# Altium footprint library SoM_Router.PcbLib: 20 footprints (part 1 of 2)
Each footprint in its own frame and in the unit in brackets; x right, y up, seen from the top. Pads: shape width x height; smd on the part's side, far side on the other; paste and mask are expansions set on the pad; w line width, h text height; cw(c..) or ccw(c..) is an arc to the next point about the centre after c.
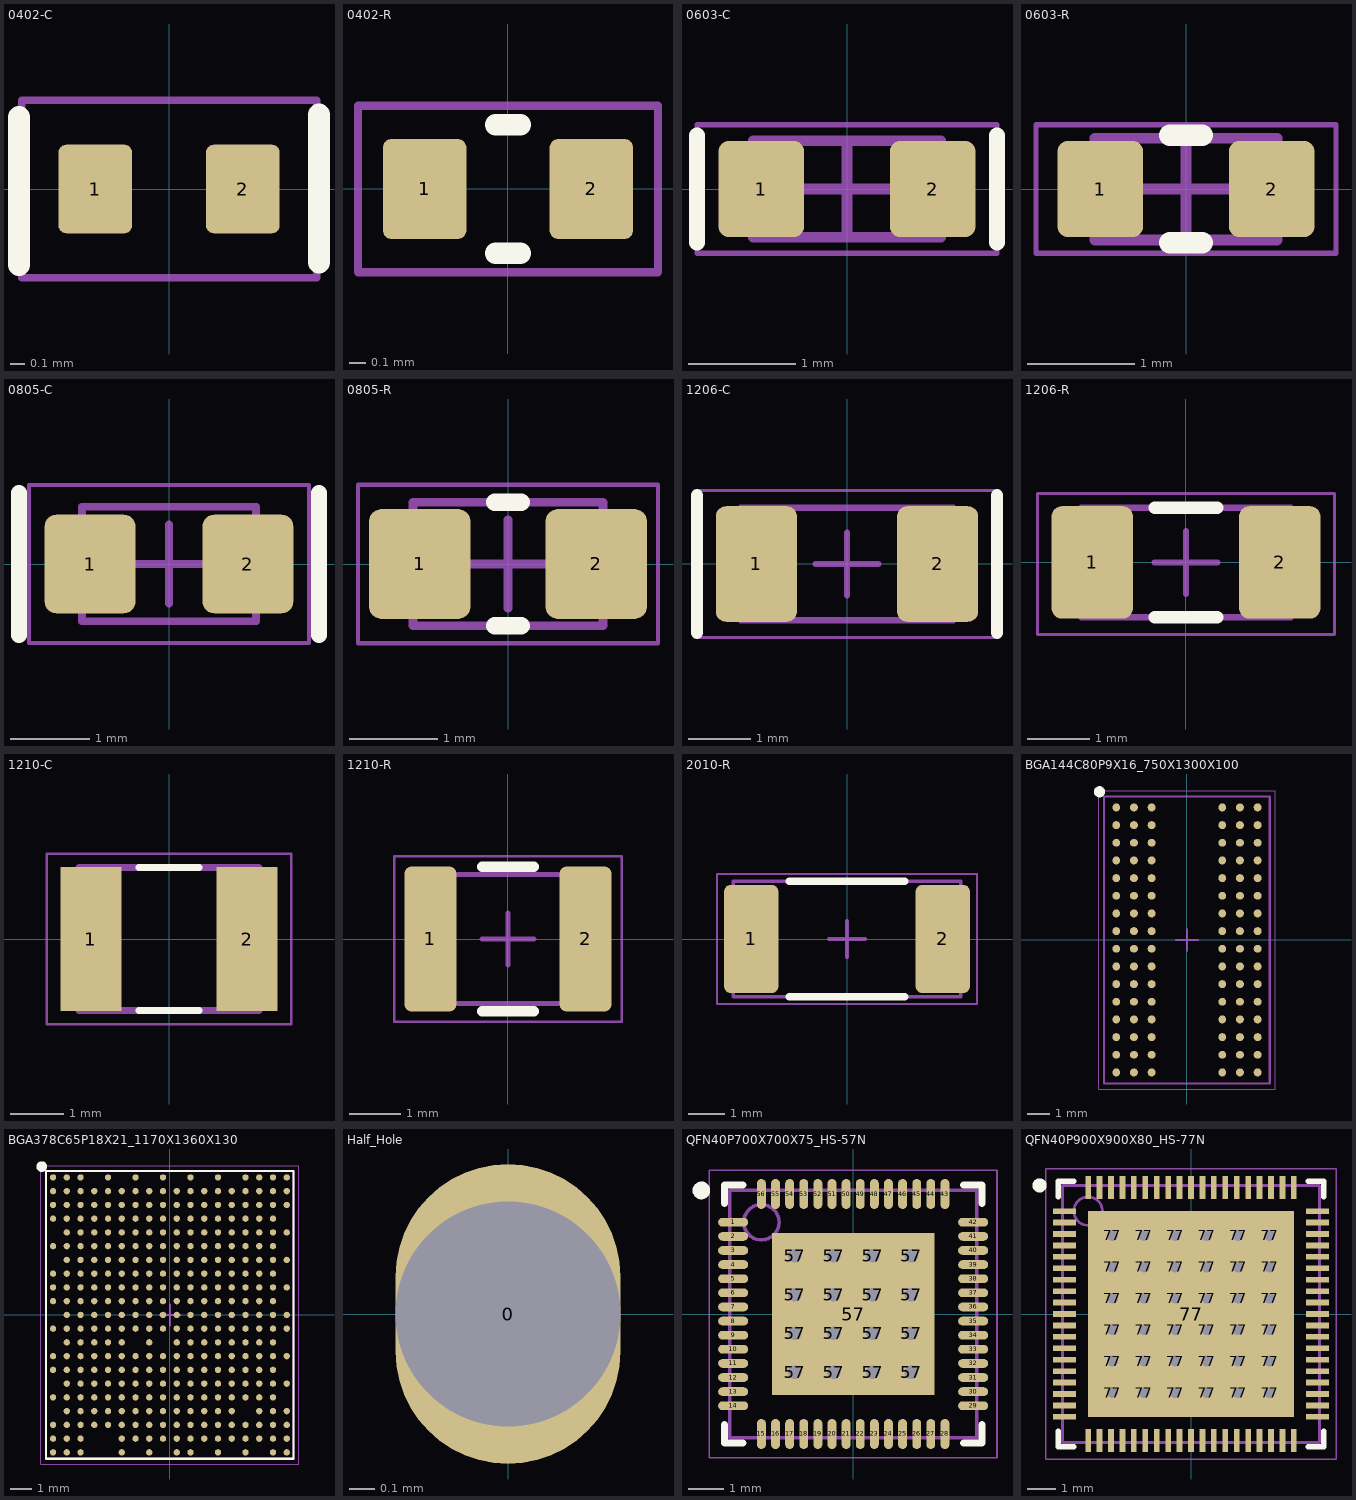
[diagram p0: the footprints below, top view; thin cyan lines are the x and y axes]

## 0402-C [mm]
pads (2):
  rrect20% 0.5x0.6 smd: 1(-0.5,0) 2(0.5,0)
Top Overlay:
  lines w0.152: -1.017,-0.515 -1.017,0.485 ; 1.016,-0.497 1.016,0.503
Mechanical 15:
  lines w0.051: -1,-0.6 -1,0.6 1,0.6 1,-0.6 -1,-0.6
3D body "GRM155R71H162JA01J.STEP": height 0.45, standoff -0.01, extent -0.5,-0.25 0.5,0.25

## 0402-R [mm]
pads (2):
  rrect20% 0.5x0.6 smd: 1(-0.5,0) 2(0.5,0)
Top Overlay:
  lines w0.127: -0.075,-0.385 0.075,-0.385 ; -0.075,0.385 0.075,0.385
Mechanical 15:
  lines w0.05: -0.9,-0.5 -0.9,0.5 0.9,0.5 0.9,-0.5 -0.9,-0.5
3D body "6-1676480-4.stp": height 0.32, standoff -0.04, extent -0.5,-0.25 0.5,0.25

## 0603-C [mm] "Capacitor 0603 Nominal Density"
height 0.55
pads (2):
  rrect25% 0.8x0.9 smd: 1(-0.8,0) 2(0.8,0)
Top Overlay:
  lines w0.15: -1.4,-0.5 -1.4,0.5 ; 1.4,-0.5 1.4,0.5
Top Courtyard:
  lines w0.05: -1.4,-0.6 1.4,-0.6 1.4,0.6 -1.4,0.6 -1.4,-0.6
  lines w0.1: -0.45,0 0.45,0 ; 0,-0.45 0,0.45
Top Assembly:
  lines w0.1: -0.875,-0.45 0.875,-0.45 0.875,0.45 -0.875,0.45 -0.875,-0.45
3D body "C_0603_X7R.STEP": height 0.95, standoff 0, extent -0.875,-0.435 0.875,0.435

## 0603-R [mm] "Resistor 0603 Medium Density"
height 0.3
pads (2):
  rrect25% 0.8x0.9 smd: 1(-0.8,0) 2(0.8,0)
Top Overlay:
  lines w0.2: -0.15,-0.5 0.15,-0.5 ; -0.15,0.5 0.15,0.5
Top Courtyard:
  lines w0.05: -1.4,-0.6 -1.4,0.6 1.4,0.6 1.4,-0.6 -1.4,-0.6
  lines w0.1: -0.5,0 0.5,0 ; 0,-0.5 0,0.5
Top Assembly:
  lines w0.1: -0.85,-0.475 -0.85,0.475 0.85,0.475 0.85,-0.475 -0.85,-0.475
3D body "Resistor SMD 0603.STEP": height 0.3, standoff 0, extent -0.8,-0.4 0.8,0.4

## 0805-C [mm] "Capacitor 0805 Nominal Density"
height 1.55
pads (2):
  rrect25% 1.15x1.25 smd: 1(-1,0) 2(1,0)
Top Overlay:
  lines w0.2: -1.9,-0.9 -1.9,0.9 ; 1.9,-0.9 1.9,0.9
Top Courtyard:
  lines w0.05: -1.775,-1 1.775,-1 1.775,1 -1.775,1 -1.775,-1
  lines w0.1: -0.5,0 0.5,0 ; 0,-0.5 0,0.5
Top Assembly:
  lines w0.1: -1.1,-0.725 1.1,-0.725 1.1,0.725 -1.1,0.725 -1.1,-0.725
3D body "CAP-0805.STEP": height 0.78, standoff 0, extent -1,-0.625 1,0.625

## 0805-R [mm] "Resistor 0805 Medium Density"
height 0.7
pads (2):
  rrect25% 1.15x1.25 smd: 1(-1,0) 2(1,0)
Top Overlay:
  lines w0.2: -0.15,-0.7 0.15,-0.7 ; -0.15,0.7 0.15,0.7
Top Courtyard:
  lines w0.05: -1.7,-0.9 1.7,-0.9 1.7,0.9 -1.7,0.9 -1.7,-0.9
  lines w0.1: -0.5,0 0.5,0 ; 0,-0.5 0,0.5
Top Assembly:
  lines w0.1: -1.075,-0.7 1.075,-0.7 1.075,0.7 -1.075,0.7 -1.075,-0.7
3D body "RES-0805.STEP": height 0.78, standoff 0, extent -1,-0.625 1,0.625

## 1206-C [mm] "Capacitor 1206 Nominal Density"
height 1.33
pads (2):
  rrect25% 1.3x1.85 smd: 1(-1.45,0) 2(1.45,0)
Top Overlay:
  lines w0.2: -2.4,-1.1 -2.4,1.1 ; 2.4,-1.1 2.4,1.1
Top Courtyard:
  lines w0.05: -2.35,-1.175 2.35,-1.175 2.35,1.175 -2.35,1.175 -2.35,-1.175
  lines w0.1: -0.5,0 0.5,0 ; 0,-0.5 0,0.5
Top Assembly:
  lines w0.1: -1.7,-0.9 1.7,-0.9 ; -1.7,-0.9 -1.7,0.9 ; -1.7,-0.9 1.7,-0.9 ; -1.7,-0.9 -1.7,0.9 ; -1.7,0.9 1.7,0.9 ; -1.7,0.9 1.7,0.9 ; 1.7,-0.9 1.7,0.9 ; 1.7,-0.9 1.7,0.9
3D body "CAP-1206.STEP": height 1, standoff 0, extent -1.6,-0.8 1.6,0.8

## 1206-R [mm] "Resistor 1206 Medium Density"
height 0.75
pads (2):
  rrect25% 1.3x1.8 smd: 1(-1.5,0) 2(1.5,0)
Top Overlay:
  lines w0.2: -0.5,-0.875 0.5,-0.875 ; -0.5,0.875 0.5,0.875
Top Courtyard:
  lines w0.05: -2.375,-1.15 -2.375,1.1 2.375,1.1 2.375,-1.15 -2.375,-1.15
  lines w0.1: -0.5,0 0.5,0 ; 0,-0.5 0,0.5
Top Assembly:
  lines w0.1: -1.675,-0.875 -1.675,0.875 1.675,0.875 1.675,-0.875 -1.675,-0.875
3D body "RES-1206.STEP": height 1, standoff 0, extent -1.6,-0.8 1.6,0.8

## 1210-C [mm]
pads (2):
  rect 1.16x2.72 smd: 1(-1.475,0) 2(1.475,0)
Top Overlay:
  lines w0.127: -0.57,-1.35 0.57,-1.35 ; -0.57,1.35 0.57,1.35
Mechanical 13:
  lines w0.127: -1.7,-1.35 -1.7,1.35 1.7,1.35 1.7,-1.35 -1.7,-1.35
Mechanical 15:
  lines w0.05: -2.308,-1.608 -2.308,1.608 2.308,1.608 2.308,-1.608 -2.308,-1.608
3D body "step_temp.STEP": height 2.8, standoff 0, extent -1.65,-1.25 1.65,1.25

## 1210-R [mm] "Resistor 1210 Medium Density"
height 0.7
pads (2):
  rrect25% 1x2.8 smd: 1(-1.5,0) 2(1.5,0)
Top Overlay:
  lines w0.2: -0.5,-1.4 0.5,-1.4 ; -0.5,1.4 0.5,1.4
Top Courtyard:
  lines w0.05: -2.2,-1.6 -2.2,1.6 2.2,1.6 2.2,-1.6 -2.2,-1.6
  lines w0.1: -0.5,0 0.5,0 ; 0,-0.5 0,0.5
Top Assembly:
  lines w0.1: -1.6,-1.25 -1.6,1.25 1.6,1.25 1.6,-1.25 -1.6,-1.25
3D body "RMCF1210JT33R0.STEP": height 0.7, standoff 0, extent -1.6,-1.25 1.6,1.25

## 2010-R [mm] "Resistor 2010 Medium Density"
height 0.7
pads (2):
  rrect25% 1.5x3 smd: 1(-2.65,0) 2(2.65,0)
Top Overlay:
  lines w0.2: -1.6,-1.6 1.6,-1.6 ; -1.6,1.6 1.6,1.6
Top Courtyard:
  lines w0.05: -3.6,-1.8 3.6,-1.8 3.6,1.8 -3.6,1.8 -3.6,-1.8
  lines w0.1: -0.5,0 0.5,0 ; 0,-0.5 0,0.5
Top Assembly:
  lines w0.1: -3.15,-1.6 -3.15,1.6 3.15,1.6 3.15,-1.6 -3.15,-1.6
3D body "CRM2010-FX-1000ELF.STEP": height 0.7, standoff 0, extent -2.5,-1.25 2.5,1.25

## BGA144C80P9X16_750X1300X100 [mm] "BGA, 144-Leads, Body 7.50x13.00mmx1.00mm, Pitch 0.80mm"
height 1
pads (96):
  round 0.36 smd: A1(-3.2,6) A2(-2.4,6) A3(-1.6,6) A7(1.6,6) A8(2.4,6) A9(3.2,6) B1(-3.2,5.2) B2(-2.4,5.2) B3(-1.6,5.2) B7(1.6,5.2) B8(2.4,5.2) B9(3.2,5.2) C1(-3.2,4.4) C2(-2.4,4.4) C3(-1.6,4.4) C7(1.6,4.4) C8(2.4,4.4) C9(3.2,4.4) D1(-3.2,3.6) D2(-2.4,3.6) D3(-1.6,3.6) D7(1.6,3.6) D8(2.4,3.6) D9(3.2,3.6) E1(-3.2,2.8) E2(-2.4,2.8) E3(-1.6,2.8) E7(1.6,2.8) E8(2.4,2.8) E9(3.2,2.8) F1(-3.2,2) F2(-2.4,2) F3(-1.6,2) F7(1.6,2) F8(2.4,2) F9(3.2,2) G1(-3.2,1.2) G2(-2.4,1.2) G3(-1.6,1.2) G7(1.6,1.2) G8(2.4,1.2) G9(3.2,1.2) H1(-3.2,0.4) H2(-2.4,0.4) H3(-1.6,0.4) H7(1.6,0.4) H8(2.4,0.4) H9(3.2,0.4) J1(-3.2,-0.4) J2(-2.4,-0.4) J3(-1.6,-0.4) J7(1.6,-0.4) J8(2.4,-0.4) J9(3.2,-0.4) K1(-3.2,-1.2) K2(-2.4,-1.2) K3(-1.6,-1.2) K7(1.6,-1.2) K8(2.4,-1.2) K9(3.2,-1.2) L1(-3.2,-2) L2(-2.4,-2) L3(-1.6,-2) L7(1.6,-2) L8(2.4,-2) L9(3.2,-2) M1(-3.2,-2.8) M2(-2.4,-2.8) M3(-1.6,-2.8) M7(1.6,-2.8) M8(2.4,-2.8) M9(3.2,-2.8) N1(-3.2,-3.6) N2(-2.4,-3.6) N3(-1.6,-3.6) N7(1.6,-3.6) N8(2.4,-3.6) N9(3.2,-3.6) P1(-3.2,-4.4) P2(-2.4,-4.4) P3(-1.6,-4.4) P7(1.6,-4.4) P8(2.4,-4.4) P9(3.2,-4.4) R1(-3.2,-5.2) R2(-2.4,-5.2) R3(-1.6,-5.2) R7(1.6,-5.2) R8(2.4,-5.2) R9(3.2,-5.2) T1(-3.2,-6) T2(-2.4,-6) T3(-1.6,-6) T7(1.6,-6) T8(2.4,-6) T9(3.2,-6)
Top Overlay:
  circle w0.25: c-3.96,6.71 r0.125
Mechanical 13:
  lines w0.1: -3.75,-6.5 3.75,-6.5 3.75,6.5 -3.75,6.5 -3.75,-6.5
Mechanical 15:
  lines w0.05: -4,-6.75 4,-6.75 4,6.75 -4,6.75 -4,-6.75
  lines w0.1: -0.5,0 0.5,0 ; 0,-0.5 0,0.5
3D body: height 1, standoff 0.3, extent -3.75,-6.5 3.75,6.5

## BGA378C65P18X21_1170X1360X130 [mm] "BGA, 378-Leads, Body 11.70x13.60mmx1.30mm, Pitch 0.65mm"
height 1.3
pads (347):
  round 0.3 smd: A1(-5.525,6.5) A2(-4.875,6.5) A3(-4.225,6.5) A5(-2.925,6.5) A7(-1.625,6.5) A9(-0.325,6.5) A11(0.975,6.5) A13(2.275,6.5) A15(3.575,6.5) A16(4.225,6.5) A17(4.875,6.5) A18(5.525,6.5) AA1(-5.525,-6.5) AA2(-4.875,-6.5) AA3(-4.225,-6.5) AA6(-2.275,-6.5) AA8(-0.975,-6.5) AA10(0.325,-6.5) AA11(0.975,-6.5) AA13(2.275,-6.5) AA15(3.575,-6.5) AA17(4.875,-6.5) AA18(5.525,-6.5) B1(-5.525,5.85) B2(-4.875,5.85) B3(-4.225,5.85) B4(-3.575,5.85) B5(-2.925,5.85) B6(-2.275,5.85) B7(-1.625,5.85) B8(-0.975,5.85) B9(-0.325,5.85) B10(0.325,5.85) B11(0.975,5.85) B12(1.625,5.85) B13(2.275,5.85) B14(2.925,5.85) B15(3.575,5.85) B16(4.225,5.85) B17(4.875,5.85) B18(5.525,5.85) C1(-5.525,5.2) C2(-4.875,5.2) C3(-4.225,5.2) C4(-3.575,5.2) C5(-2.925,5.2) C6(-2.275,5.2) C7(-1.625,5.2) C8(-0.975,5.2) C9(-0.325,5.2) C10(0.325,5.2) C11(0.975,5.2) C12(1.625,5.2) C13(2.275,5.2) C14(2.925,5.2) C15(3.575,5.2) C16(4.225,5.2) C17(4.875,5.2) C18(5.525,5.2) D1(-5.525,4.55) D2(-4.875,4.55) D3(-4.225,4.55) D4(-3.575,4.55) D5(-2.925,4.55) D6(-2.275,4.55) D7(-1.625,4.55) D8(-0.975,4.55) D9(-0.325,4.55) D10(0.325,4.55) D11(0.975,4.55) D12(1.625,4.55) D13(2.275,4.55) D14(2.925,4.55) D15(3.575,4.55) D16(4.225,4.55) D17(4.875,4.55) E2(-4.875,3.9) E3(-4.225,3.9) E4(-3.575,3.9) E5(-2.925,3.9) E6(-2.275,3.9) E7(-1.625,3.9) E8(-0.975,3.9) E9(-0.325,3.9) E10(0.325,3.9) E11(0.975,3.9) E12(1.625,3.9) E13(2.275,3.9) E14(2.925,3.9) E15(3.575,3.9) E16(4.225,3.9) E17(4.875,3.9) E18(5.525,3.9) F1(-5.525,3.25) F2(-4.875,3.25) F3(-4.225,3.25) F4(-3.575,3.25) F5(-2.925,3.25) F6(-2.275,3.25) F7(-1.625,3.25) F8(-0.975,3.25) F9(-0.325,3.25) F10(0.325,3.25) F11(0.975,3.25) F12(1.625,3.25) F13(2.275,3.25) F14(2.925,3.25) F15(3.575,3.25) F16(4.225,3.25) F17(4.875,3.25) G2(-4.875,2.6) G3(-4.225,2.6) G4(-3.575,2.6) G5(-2.925,2.6) G6(-2.275,2.6) G7(-1.625,2.6) G8(-0.975,2.6) G9(-0.325,2.6) G10(0.325,2.6) G11(0.975,2.6) G12(1.625,2.6) G13(2.275,2.6) G14(2.925,2.6) G15(3.575,2.6) G16(4.225,2.6) G17(4.875,2.6) G18(5.525,2.6) H1(-5.525,1.95) H2(-4.875,1.95) H3(-4.225,1.95) H4(-3.575,1.95) H5(-2.925,1.95) H6(-2.275,1.95) H7(-1.625,1.95) H8(-0.975,1.95) H9(-0.325,1.95) H10(0.325,1.95) H11(0.975,1.95) H12(1.625,1.95) H13(2.275,1.95) H14(2.925,1.95) H15(3.575,1.95) H16(4.225,1.95) H17(4.875,1.95) J1(-5.525,1.3) J2(-4.875,1.3) J3(-4.225,1.3) J4(-3.575,1.3) J5(-2.925,1.3) J6(-2.275,1.3) J7(-1.625,1.3) J8(-0.975,1.3) J9(-0.325,1.3) J10(0.325,1.3) J11(0.975,1.3) J12(1.625,1.3) J13(2.275,1.3) J14(2.925,1.3) J15(3.575,1.3) J16(4.225,1.3) J17(4.875,1.3) J18(5.525,1.3) K1(-5.525,0.65) K2(-4.875,0.65) K3(-4.225,0.65) K4(-3.575,0.65) K5(-2.925,0.65) K6(-2.275,0.65) K7(-1.625,0.65) K8(-0.975,0.65) K9(-0.325,0.65) K10(0.325,0.65) K11(0.975,0.65) K12(1.625,0.65) K13(2.275,0.65) K14(2.925,0.65) K15(3.575,0.65) K16(4.225,0.65) K17(4.875,0.65) L2(-4.875,0) L3(-4.225,0) L4(-3.575,0) L5(-2.925,0) L6(-2.275,0) L7(-1.625,0) L8(-0.975,0) L9(-0.325,0) L10(0.325,0) L11(0.975,0) L12(1.625,0) L13(2.275,0) L14(2.925,0) L15(3.575,0) L16(4.225,0) L17(4.875,0) L18(5.525,0) M1(-5.525,-0.65) M2(-4.875,-0.65) M3(-4.225,-0.65) M4(-3.575,-0.65) M5(-2.925,-0.65) M6(-2.275,-0.65) M7(-1.625,-0.65) M8(-0.975,-0.65) M9(-0.325,-0.65) M10(0.325,-0.65) M11(0.975,-0.65) M12(1.625,-0.65) M13(2.275,-0.65) M14(2.925,-0.65) M15(3.575,-0.65) M16(4.225,-0.65) M17(4.875,-0.65) M18(5.525,-0.65) N2(-4.875,-1.3) N3(-4.225,-1.3) N4(-3.575,-1.3) N5(-2.925,-1.3) N6(-2.275,-1.3) N8(-0.975,-1.3) N10(0.325,-1.3) N11(0.975,-1.3) N12(1.625,-1.3) N13(2.275,-1.3) N14(2.925,-1.3) N15(3.575,-1.3) N16(4.225,-1.3) N17(4.875,-1.3) P1(-5.525,-1.95) P2(-4.875,-1.95) P3(-4.225,-1.95) P4(-3.575,-1.95) P5(-2.925,-1.95) P6(-2.275,-1.95) P7(-1.625,-1.95) P8(-0.975,-1.95) P9(-0.325,-1.95) P10(0.325,-1.95) P11(0.975,-1.95) P12(1.625,-1.95) P13(2.275,-1.95) P14(2.925,-1.95) P15(3.575,-1.95) P16(4.225,-1.95) P17(4.875,-1.95) P18(5.525,-1.95) R1(-5.525,-2.6) R2(-4.875,-2.6) R3(-4.225,-2.6) R4(-3.575,-2.6) R5(-2.925,-2.6) R6(-2.275,-2.6) R7(-1.625,-2.6) R8(-0.975,-2.6) R9(-0.325,-2.6) R10(0.325,-2.6) R11(0.975,-2.6) R12(1.625,-2.6) R13(2.275,-2.6) R14(2.925,-2.6) R15(3.575,-2.6) R16(4.225,-2.6) R17(4.875,-2.6) T2(-4.875,-3.25) T3(-4.225,-3.25) T4(-3.575,-3.25) T5(-2.925,-3.25) T6(-2.275,-3.25) T7(-1.625,-3.25) T8(-0.975,-3.25) T9(-0.325,-3.25) T10(0.325,-3.25) T11(0.975,-3.25) T12(1.625,-3.25) T13(2.275,-3.25) T14(2.925,-3.25) T15(3.575,-3.25) T16(4.225,-3.25) T17(4.875,-3.25) T18(5.525,-3.25) U1(-5.525,-3.9) U2(-4.875,-3.9) U3(-4.225,-3.9) U4(-3.575,-3.9) U5(-2.925,-3.9) U6(-2.275,-3.9) U7(-1.625,-3.9) U8(-0.975,-3.9) U9(-0.325,-3.9) U10(0.325,-3.9) U11(0.975,-3.9) U12(1.625,-3.9) U13(2.275,-3.9) U14(2.925,-3.9) U15(3.575,-3.9) U16(4.225,-3.9) U17(4.875,-3.9) V2(-4.875,-4.55) V3(-4.225,-4.55) V4(-3.575,-4.55) V5(-2.925,-4.55) V6(-2.275,-4.55) V7(-1.625,-4.55) V8(-0.975,-4.55) V9(-0.325,-4.55) V10(0.325,-4.55) V11(0.975,-4.55) V12(1.625,-4.55) V13(2.275,-4.55) V14(2.925,-4.55) V16(4.225,-4.55) V17(4.875,-4.55) V18(5.525,-4.55) W1(-5.525,-5.2) W2(-4.875,-5.2) W3(-4.225,-5.2) W4(-3.575,-5.2) W5(-2.925,-5.2) W6(-2.275,-5.2) W7(-1.625,-5.2) W8(-0.975,-5.2) W9(-0.325,-5.2) W10(0.325,-5.2) W11(0.975,-5.2) W12(1.625,-5.2) W13(2.275,-5.2) W14(2.925,-5.2) W15(3.575,-5.2) W16(4.225,-5.2) W17(4.875,-5.2) W18(5.525,-5.2) Y1(-5.525,-5.85) Y2(-4.875,-5.85) Y3(-4.225,-5.85) Y6(-2.275,-5.85) Y7(-1.625,-5.85) Y8(-0.975,-5.85) Y9(-0.325,-5.85) Y10(0.325,-5.85) Y11(0.975,-5.85) Y12(1.625,-5.85) Y13(2.275,-5.85) Y14(2.925,-5.85) Y15(3.575,-5.85) Y16(4.225,-5.85) Y17(4.875,-5.85) Y18(5.525,-5.85)
Top Overlay:
  circle w0.25: c-6.06,7.01 r0.125
  lines w0.1: -5.85,-6.8 5.85,-6.8 5.85,6.8 -5.85,6.8 -5.85,-6.8
Mechanical 13:
  lines w0.1: -5.85,-6.8 -5.85,6.8 5.85,6.8 5.85,-6.8 -5.85,-6.8
Mechanical 15:
  lines w0.05: -6.1,-7.05 -6.1,7.05 6.1,7.05 6.1,-7.05 -6.1,-7.05
  lines w0.1: -0.5,0 0.5,0 ; 0,-0.5 0,0.5
3D body: height 1.3, standoff 0.21, extent -5.85,-6.8 5.85,6.8

## Half_Hole [mm]
pads (1):
  oval 0.9x1.2 / inner oval 0.9x1.2 / far side rect 0.9x1.2 hole 0.9 mask+0.102: 0(0,0)

## QFN40P700X700X75_HS-57N [mm] "QFN, 56-Leads, Body 7.00x7.00mm, Pitch 0.40mm, Thermal Pad 4.60x4.60mm, IPC Medium Density"
height 0.75
pads (73):
  oval 0.85x0.25 smd: 1(-3.4,2.6) 2(-3.4,2.2) 3(-3.4,1.8) 4(-3.4,1.4) 5(-3.4,1) 6(-3.4,0.6) 7(-3.4,0.2) 8(-3.4,-0.2) 9(-3.4,-0.6) 10(-3.4,-1) 11(-3.4,-1.4) 12(-3.4,-1.8) 13(-3.4,-2.2) 14(-3.4,-2.6) 29(3.4,-2.6) 30(3.4,-2.2) 31(3.4,-1.8) 32(3.4,-1.4) 33(3.4,-1) 34(3.4,-0.6) 35(3.4,-0.2) 36(3.4,0.2) 37(3.4,0.6) 38(3.4,1) 39(3.4,1.4) 40(3.4,1.8) 41(3.4,2.2) 42(3.4,2.6)
  oval 0.25x0.85 smd: 15(-2.6,-3.4) 16(-2.2,-3.4) 17(-1.8,-3.4) 18(-1.4,-3.4) 19(-1,-3.4) 20(-0.6,-3.4) 21(-0.2,-3.4) 22(0.2,-3.4) 23(0.6,-3.4) 24(1,-3.4) 25(1.4,-3.4) 26(1.8,-3.4) 27(2.2,-3.4) 28(2.6,-3.4) 43(2.6,3.4) 44(2.2,3.4) 45(1.8,3.4) 46(1.4,3.4) 47(1,3.4) 48(0.6,3.4) 49(0.2,3.4) 50(-0.2,3.4) 51(-0.6,3.4) 52(-1,3.4) 53(-1.4,3.4) 54(-1.8,3.4) 55(-2.2,3.4) 56(-2.6,3.4)
  round 0.762 hole 0.381 mask+0: 57(-1.65,-1.65) 57(-1.65,-0.55) 57(-1.65,0.55) 57(-1.65,1.65) 57(-0.55,-1.65) 57(-0.55,-0.55) 57(-0.55,0.55) 57(-0.55,1.65) 57(0.55,-1.65) 57(0.55,-0.55) 57(0.55,0.55) 57(0.55,1.65) 57(1.65,-1.65) 57(1.65,-0.55) 57(1.65,0.55) 57(1.65,1.65)
  rect 4.6x4.6 smd: 57(0,0)
Top Overlay:
  circle w0.25: c-4.3,3.5 r0.125
  lines w0.2: -3.65,-3.125 -3.65,-3.65 -3.125,-3.65 ; -3.65,3.125 -3.65,3.65 -3.125,3.65 ; 3.125,-3.65 3.65,-3.65 3.65,-3.125 ; 3.125,3.65 3.65,3.65 3.65,3.125
Mechanical 13:
  circle w0.1: c-2.6,2.6 r0.5
  lines w0.1: -3.5,-3.5 -3.5,3.5 3.5,3.5 3.5,-3.5 -3.5,-3.5
Mechanical 15:
  lines w0.05: -4.075,-4.075 -4.075,4.075 4.075,4.075 4.075,-4.075 -4.075,-4.075
  lines w0.1: -0.5,0 0.5,0 ; 0,-0.5 0,0.5
3D body: height 0.75, standoff 0.01, extent -3.5,-3.5 3.5,3.5

## QFN40P900X900X80_HS-77N [mm] "QFN, 76-Leads, Body 9.00x9.00mm, Pitch 0.40mm, Thermal Pad 7.20x7.20mm, IPC Medium Density"
height 0.8
pads (113):
  rect 0.8x0.2 smd: 1(-4.425,3.6) 2(-4.425,3.2) 3(-4.425,2.8) 4(-4.425,2.4) 5(-4.425,2) 6(-4.425,1.6) 7(-4.425,1.2) 8(-4.425,0.8) 9(-4.425,0.4) 10(-4.425,0) 11(-4.425,-0.4) 12(-4.425,-0.8) 13(-4.425,-1.2) 14(-4.425,-1.6) 15(-4.425,-2) 16(-4.425,-2.4) 17(-4.425,-2.8) 18(-4.425,-3.2) 19(-4.425,-3.6) 39(4.425,-3.6) 40(4.425,-3.2) 41(4.425,-2.8) 42(4.425,-2.4) 43(4.425,-2) 44(4.425,-1.6) 45(4.425,-1.2) 46(4.425,-0.8) 47(4.425,-0.4) 48(4.425,0) 49(4.425,0.4) 50(4.425,0.8) 51(4.425,1.2) 52(4.425,1.6) 53(4.425,2) 54(4.425,2.4) 55(4.425,2.8) 56(4.425,3.2) 57(4.425,3.6)
  rect 0.2x0.8 smd: 20(-3.6,-4.425) 21(-3.2,-4.425) 22(-2.8,-4.425) 23(-2.4,-4.425) 24(-2,-4.425) 25(-1.6,-4.425) 26(-1.2,-4.425) 27(-0.8,-4.425) 28(-0.4,-4.425) 29(0,-4.425) 30(0.4,-4.425) 31(0.8,-4.425) 32(1.2,-4.425) 33(1.6,-4.425) 34(2,-4.425) 35(2.4,-4.425) 36(2.8,-4.425) 37(3.2,-4.425) 38(3.6,-4.425) 58(3.6,4.425) 59(3.2,4.425) 60(2.8,4.425) 61(2.4,4.425) 62(2,4.425) 63(1.6,4.425) 64(1.2,4.425) 65(0.8,4.425) 66(0.4,4.425) 67(0,4.425) 68(-0.4,4.425) 69(-0.8,4.425) 70(-1.2,4.425) 71(-1.6,4.425) 72(-2,4.425) 73(-2.4,4.425) 74(-2.8,4.425) 75(-3.2,4.425) 76(-3.6,4.425)
  round 0.762 hole 0.381 mask+0: 77(-2.75,-2.75) 77(-2.75,-1.65) 77(-2.75,-0.55) 77(-2.75,0.55) 77(-2.75,1.65) 77(-2.75,2.75) 77(-1.65,-2.75) 77(-1.65,-1.65) 77(-1.65,-0.55) 77(-1.65,0.55) 77(-1.65,1.65) 77(-1.65,2.75) 77(-0.55,-2.75) 77(-0.55,-1.65) 77(-0.55,-0.55) 77(-0.55,0.55) 77(-0.55,1.65) 77(-0.55,2.75) 77(0.55,-2.75) 77(0.55,-1.65) 77(0.55,-0.55) 77(0.55,0.55) 77(0.55,1.65) 77(0.55,2.75) 77(1.65,-2.75) 77(1.65,-1.65) 77(1.65,-0.55) 77(1.65,0.55) 77(1.65,1.65) 77(1.65,2.75) 77(2.75,-2.75) 77(2.75,-1.65) 77(2.75,-0.55) 77(2.75,0.55) 77(2.75,1.65) 77(2.75,2.75)
  rect 7.2x7.2 smd: 77(0,0)
Top Overlay:
  circle w0.25: c-5.3,4.5 r0.125
  lines w0.2: -4.65,-4.1 -4.65,-4.65 -4.1,-4.65 ; -4.65,4.1 -4.65,4.65 -4.1,4.65 ; 4.1,-4.65 4.65,-4.65 4.65,-4.1 ; 4.1,4.65 4.65,4.65 4.65,4.1
Mechanical 13:
  circle w0.1: c-3.6,3.6 r0.5
  lines w0.1: -4.5,-4.5 -4.5,4.5 4.5,4.5 4.5,-4.5 -4.5,-4.5
Mechanical 15:
  lines w0.05: -5.075,-5.075 -5.075,5.075 5.075,5.075 5.075,-5.075 -5.075,-5.075
  lines w0.1: -0.5,0 0.5,0 ; 0,-0.5 0,0.5
3D body: height 0.8, standoff 0.05, extent -4.5,-4.5 4.5,4.5